# Altium footprint library zubax.PcbLib: 1 footprints
Each footprint in its own frame and in the unit in brackets; x right, y up, seen from the top. Pads: shape width x height; smd on the part's side, far side on the other; paste and mask are expansions set on the pad; w line width, h text height; cw(c..) or ccw(c..) is an arc to the next point about the centre after c.
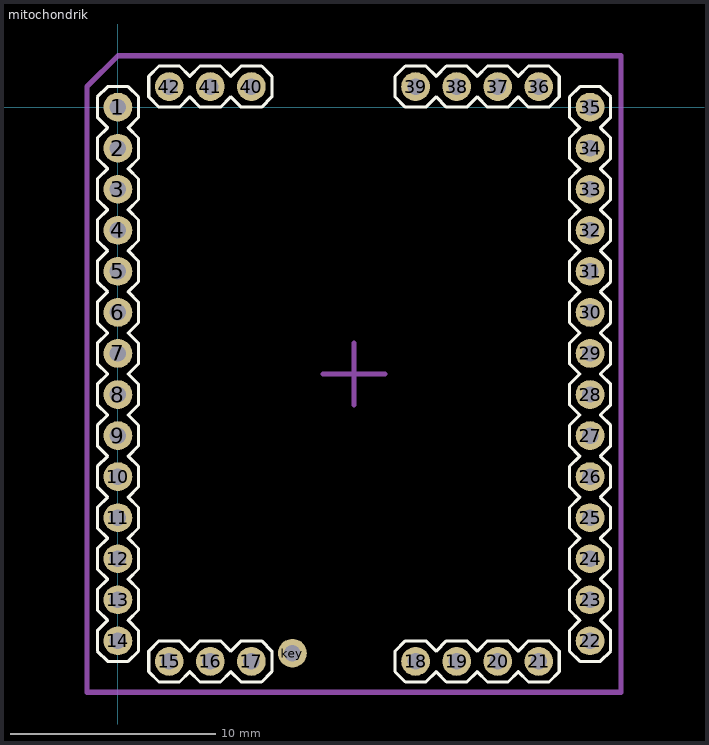
[diagram p0: the footprint, top view; thin cyan lines are the x and y axes]

## mitochondrik [mil]
height 236.22
pads (43):
  round 55.12 / inner round 60 / far side round 55.12 hole 31.5: 1(0,0) 2(0,-78.74) 3(0,-157.48) 4(0,-236.22) 5(0,-314.96) 6(0,-393.7) 7(0,-472.44) 8(0,-551.18) 9(0,-629.92) 10(0,-708.66) 11(0,-787.4) 12(0,-866.14) 13(0,-944.88) 14(0,-1023.62) 15(98.43,-1062.99) 16(177.17,-1062.99) 17(255.91,-1062.99) 18(570.87,-1062.99) 19(649.61,-1062.99) 20(728.35,-1062.99) 21(807.09,-1062.99) 22(905.52,-1023.62) 23(905.52,-944.88) 24(905.52,-866.14) 25(905.52,-787.4) 26(905.52,-708.66) 27(905.52,-629.92) 28(905.52,-551.18) 29(905.52,-472.44) 30(905.52,-393.7) 31(905.52,-314.96) 32(905.52,-236.22) 33(905.52,-157.48) 34(905.52,-78.74) 35(905.52,0) 36(807.09,39.37) 37(728.35,39.37) 38(649.61,39.37) 39(570.87,39.37) 40(255.91,39.37) 41(177.17,39.37) 42(98.43,39.37) key(334.65,-1047.24)
Top Overlay:
  drawing of 264 lines, arcs and shapes, not listed
Mechanical 15:
  lines w10: 393.7,-511.81 511.81,-511.81 ; 452.76,-570.87 452.76,-452.76 ; -59.06,-1122.05 964.57,-1122.05 964.57,98.43 679.13,98.43 226.38,98.43 0,98.43 -59.06,39.37 -59.06,-1122.05
3D body "3d_view.step": height 302.36, standoff -114.17, extent -37.59,-1103.93 946.66,77.17
3D body: height 39.37, standoff -2.94, extent -614.17,-748.03 -614.17,-748.03
3D body: height 39.37, standoff -2.94, extent -279.53,161.42 -279.53,161.42